# EAGLE library part ATTINY4313 (library Railstars)
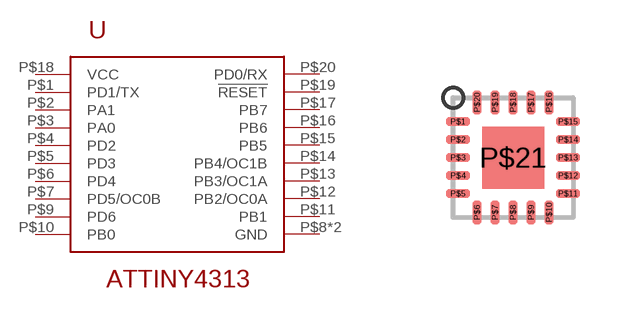
[diagram p15: symbol with the pads of VQFN-20; footprint VQFN-20]

Designator prefix -

## ATTINY4313-MMH  [VQFN-20]
P$1  PD1/TX
P$2  PA1
P$3  PA0
P$4  PD2
P$5  PD3
P$6  PD4
P$7  PD5/OC0B
P$8  GND
P$9  PD6
P$10  PB0
P$11  PB1
P$12  PB2/OC0A
P$13  PB3/OC1A
P$14  PB4/OC1B
P$15  PB5
P$16  PB6
P$17  PB7
P$18  VCC
P$19  !RESET
P$20  PD0/RX
P$21  GND

## Footprint VQFN-20 (pad centres in mm)
smd 0.6 x 0.22: P$1 -1.375,0.9; P$2 -1.375,0.45; P$3 -1.375,0; P$4 -1.375,-0.45; P$5 -1.375,-0.9; P$11 1.375,-0.9; P$12 1.375,-0.45; P$13 1.375,0; P$14 1.375,0.45; P$15 1.375,0.9
smd 0.22 x 0.6: P$6 -0.9,-1.375; P$7 -0.45,-1.375; P$8 0,-1.375; P$9 0.45,-1.375; P$10 0.9,-1.375; P$16 0.9,1.375; P$17 0.45,1.375; P$18 0,1.375; P$19 -0.45,1.375; P$20 -0.9,1.375
smd 1.55 x 1.55: P$21 0,0